# Altium schematic symbol library Connectors.SchLib: 22 symbols
Pins are listed as number, name and electrical type; pins without a type are passive.

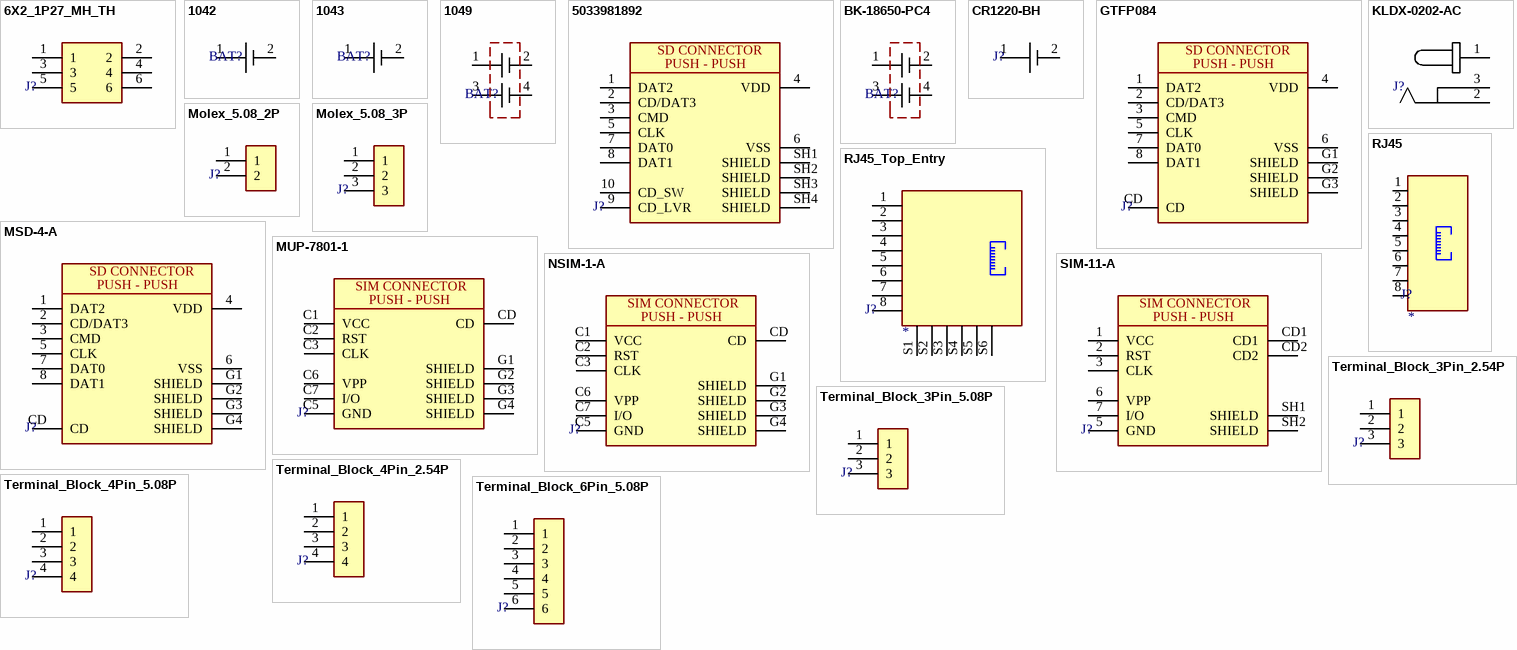
[diagram p0: symbols 6X2_1P27_MH_TH to Terminal_Block_6Pin_5.08P]

## 6X2_1P27_MH_TH
designator J?
Manufacturer Part Number 1: *; Manufacturer 1: *; Value: *
footprint 6X2_1P27_MH_TH
pins: 1, 2, 3, 4, 5, 6

## 1042
designator BAT?
BATTERY HOLDER 18650 SMD; Manufacturer 1: Keystone Electronics; Manufacturer Part Number 1: 1042; Value: *
footprint 1042 (BATTERY HOLDER 18650 SMD)
pins: 1 +, 2 -

## 1043
designator BAT?
BATTERY HOLDER 18650 PC PIN
footprint 1043 (BATTERY HOLDER 18650 PC PIN)
pins: 1 +, 2 -

## 1049
designator BAT?
BATT HOLDER 18650 2 CELL PC PIN; Manufacturer 1: Keystone Electronics; Manufacturer Part Number 1: 1049; Value: *
footprint 1049 (Footprint not found)
pins: 1 +, 2 -, 3 +, 4 -

## 5033981892
designator J?
9 (8 + 1) Position Card Connector Secure Digital - microSD™ Surface Mount, Right Angle Gold; Manufacturer Part Number 1: 5033981892; Manufacturer 1: Molex; Package: 9 (8+1); Value: *
footprint 5033981892 (9 (8 + 1) Position Card Connector Secure Digital - microSD™ Surface Mount, Right Angle Gold)
pins: 1 DAT2, 2 CD/DAT3, 3 CMD, 4 VDD, 5 CLK, 6 VSS (power), 7 DAT0, 8 DAT1, 9 CD_LVR (power), 10 CD_SW, SH1 SHIELD (power), SH2 SHIELD (power), SH3 SHIELD (power), SH4 SHIELD (power)
text: SD CONNECTOR; PUSH - PUSH

## BK-18650-PC4
designator BAT?
BATT HOLDER 18650 2 CELL PC PIN; Manufacturer 1: MPD; Manufacturer Part Number 1: BK-18650-PC4; Value: *; Supplier 1: *; Supplier Part Number 1: *
footprint BK-18650-PC4 (2X 18650 Through Hole Battery Holder)
pins: 1 +, 2 -, 3 +, 4 -

## CR1220-BH
designator J?
BATTERY HOLDER COIN 12.5MM SMD; Manufacturer 1: Keystone Electronics; Value: *; Manufacturer Part Number 1: *
footprint CR1220-BH (BATTERY HOLDER COIN 12.5MM SMD)
pins: 1 +, 2 -

## GTFP084
designator J?
9 (8 + 1) Position Card Connector Secure Digital - microSD™ Surface Mount, Right Angle Gold; Manufacturer 1: Same Sky; Manufacturer Part Number 1: *; Package: 9 (8+1); Value: *
footprint GTFP084 (9 (8 + 1) Position Card Connector Secure Digital - microSD™ Surface Mount, Right Angle Gold)
pins: 1 DAT2, 2 CD/DAT3, 3 CMD, 4 VDD, 5 CLK, 6 VSS (power), 7 DAT0, 8 DAT1, CD, G1 SHIELD (power), G2 SHIELD (power), G3 SHIELD (power)
text: SD CONNECTOR; PUSH - PUSH

## KLDX-0202-AC
designator J?
CONN PWR JACK 2X5.5MM KINKED PIN; Value: *; Manufacturer 1: *; Manufacturer Part Number 1: *
footprint KLDX-0202-AC (CONN PWR JACK 2X5.5MM KINKED PIN)
pins: 1, 2, 3

## Molex_5.08_2P
designator J?
Molex 7A 5.08mm Connector 2 Pin; Manufacturer Part Number 1: *; Manufacturer 1: *; Value: *
footprint Molex_5.08_2P
pins: 1, 2

## Molex_5.08_3P
designator J?
Molex 7A 5.08mm Connector 3 Pin; Manufacturer Part Number 1: *; Manufacturer 1: *; Value: *
footprint Molex_5.08_3P
pins: 1, 2, 3

## MSD-4-A
designator J?
9 (8 + 1) Position Card Connector microSD™ Surface Mount, Right Angle Gold; Manufacturer 1: Same Sky; Manufacturer Part Number 1: *; Package: 9 (8+1); Value: *
footprint MSD-4-A (9 (8 + 1) Position Card Connector microSD™ Surface Mount, Right Angle Gold)
pins: 1 DAT2, 2 CD/DAT3, 3 CMD, 4 VDD, 5 CLK, 6 VSS (power), 7 DAT0, 8 DAT1, CD, G1 SHIELD (power), G2 SHIELD (power), G3 SHIELD (power), G4 SHIELD (power)
text: SD CONNECTOR; PUSH - PUSH

## MUP-7801-1
designator J?
7 (6 + 1) Position Card Connector NANO SIM Surface Mount, Right Angle Gold; Manufacturer 1: MUP; Manufacturer Part Number 1: *; Package: 7 (6 + 1); Value: *
footprint MUP-7801-1
pins: C1 VCC (power), C2 RST, C3 CLK, C5 GND (power), C6 VPP (power), C7 I/O, CD, G1 SHIELD (power), G2 SHIELD (power), G3 SHIELD (power), G4 SHIELD (power)
text: SIM CONNECTOR; PUSH - PUSH

## NSIM-1-A
designator J?
7 (6 + 1) Position Card Connector NANO SIM Surface Mount, Right Angle Gold; Manufacturer 1: Same Sky; Manufacturer Part Number 1: *; Package: 7 (6 + 1); Value: *
footprint NSIM-1-A (7 (6 + 1) Position Card Connector NANO SIM Surface Mount, Right Angle Gold)
pins: C1 VCC (power), C2 RST, C3 CLK, C5 GND (power), C6 VPP (power), C7 I/O, CD, G1 SHIELD (power), G2 SHIELD (power), G3 SHIELD (power), G4 SHIELD (power)
text: SIM CONNECTOR; PUSH - PUSH

## RJ45
designator J?, comment ERP_148-3  (value not drawn)
CONN MOD JACK 8P8C R/A UNSHLD; Manufacturer Part Number 1: *; Manufacturer 1: *; Supplier Part Number 1: *; Supplier 1: *; ERP: *; Package: 8P8C; Value: *
footprint RJ45
pins: 1, 2, 3, 4, 5, 6, 7, 8

## RJ45_Top_Entry
designator J?, comment ERP_148-3  (value not drawn)
PCB-009 Robu; Manufacturer Part Number 1: *; Manufacturer 1: *; Supplier Part Number 1: 1883509; Supplier 1: Robu; ERP: *; Package: 8P8C; Value: *
footprint PCB-009
pins: 1, 2, 3, 4, 5, 6, 7, 8, S1, S2, S3, S4, S5, S6

## SIM-11-A
designator J?
8 (6 + 2) Position Card Connector SIM Card Surface Mount, Right Angle Gold; Manufacturer 1: Same Sky; Manufacturer Part Number 1: *; Package: 8 (6 + 2); Value: *
footprint SIM-11-A (Footprint not found)
pins: 1 VCC (power), 2 RST, 3 CLK, 5 GND (power), 6 VPP (power), 7 I/O, CD1, CD2, SH1 SHIELD (power), SH2 SHIELD (power)
text: SIM CONNECTOR; PUSH - PUSH

## Terminal_Block_3Pin_2.54P
designator J?
TERMINAL BLOCK 3 PIN 2.54 PITCH; Manufacturer Part Number 1: *; Manufacturer 1: *; Value: *
footprint Terminal_Block_3Pin_2.54P
pins: 1, 2, 3

## Terminal_Block_3Pin_5.08P
designator J?
6PINS TERMINAL BLOCK 5.08 PITCH; Manufacturer Part Number 1: *; Manufacturer 1: *; Supplier Part Number 1: *; Supplier 1: *; ERP: *; Package: 6PIN
footprint 3Pin_TerminalBlock_5.08P
footprint TB_PLUG_5.08P_3P
pins: 1, 2, 3

## Terminal_Block_4Pin_2.54P
designator J?
TERMINAL BLOCK 4 PIN 2.54 PITCH; Manufacturer Part Number 1: *; Manufacturer 1: *; Value: *
footprint Terminal_Block_4Pin_2.54P
pins: 1, 2, 3, 4

## Terminal_Block_4Pin_5.08P
designator J?
6PINS TERMINAL BLOCK 5.08 PITCH; Manufacturer Part Number 1: *; Manufacturer 1: *; Supplier Part Number 1: *; Supplier 1: *; ERP: *; Package: 6PIN
footprint 4Pin_TerminalBlock_5.08P
footprint TB_PLUG_5.08P_4P
pins: 1, 2, 3, 4

## Terminal_Block_6Pin_5.08P
designator J?
6PINS TERMINAL BLOCK 5.08 PITCH; Manufacturer Part Number 1: *; Manufacturer 1: *; Supplier Part Number 1: *; Supplier 1: *; ERP: *; Package: 6PIN
footprint 6Pin_TerminalBlock_5.08P
pins: 1, 2, 3, 4, 5, 6